# EAGLE library part ATSAM4S8B (library misc)
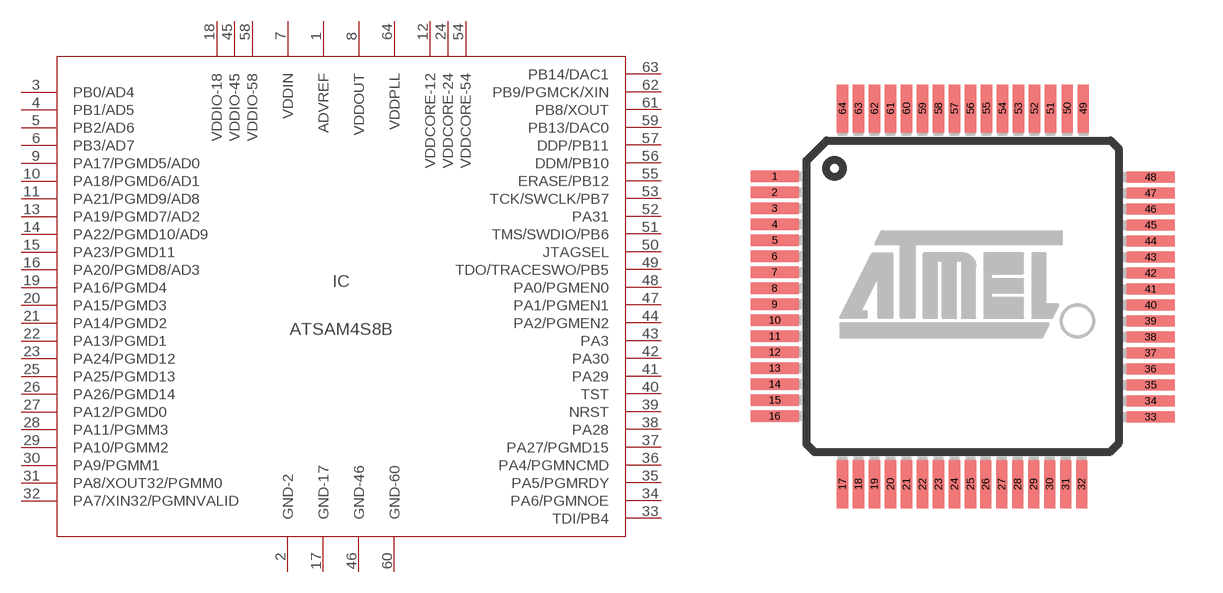
[diagram p3: symbol with the pads of LQFP64; footprint LQFP64]

Designator prefix IC

## ATSAM4S8B  [LQFP64]
1  ADVREF
2  GND-2
3  PB0/AD4
4  PB1/AD5
5  PB2/AD6
6  PB3/AD7
7  VDDIN
8  VDDOUT
9  PA17/PGMD5/AD0
10  PA18/PGMD6/AD1
11  PA21/PGMD9/AD8
12  VDDCORE-12
13  PA19/PGMD7/AD2
14  PA22/PGMD10/AD9
15  PA23/PGMD11
16  PA20/PGMD8/AD3
17  GND-17
18  VDDIO-18
19  PA16/PGMD4
20  PA15/PGMD3
21  PA14/PGMD2
22  PA13/PGMD1
23  PA24/PGMD12
24  VDDCORE-24
25  PA25/PGMD13
26  PA26/PGMD14
27  PA12/PGMD0
28  PA11/PGMM3
29  PA10/PGMM2
30  PA9/PGMM1
31  PA8/XOUT32/PGMM0
32  PA7/XIN32/PGMNVALID
33  TDI/PB4
34  PA6/PGMNOE
35  PA5/PGMRDY
36  PA4/PGMNCMD
37  PA27/PGMD15
38  PA28
39  NRST
40  TST
41  PA29
42  PA30
43  PA3
44  PA2/PGMEN2
45  VDDIO-45
46  GND-46
47  PA1/PGMEN1
48  PA0/PGMEN0
49  TDO/TRACESWO/PB5
50  JTAGSEL
51  TMS/SWDIO/PB6
52  PA31
53  TCK/SWCLK/PB7
54  VDDCORE-54
55  ERASE/PB12
56  DDM/PB10
57  DDP/PB11
58  VDDIO-58
59  PB13/DAC0
60  GND-60
61  PB8/XOUT
62  PB9/PGMCK/XIN
63  PB14/DAC1
64  VDDPLL

## Footprint LQFP64 (pad centres in mm)
LQFP 64
smd 1.5 x 0.35: 1 -5.875,3.75; 2 -5.875,3.25; 3 -5.875,2.75; 4 -5.875,2.25; 5 -5.875,1.75; 6 -5.875,1.25; 7 -5.875,0.75; 8 -5.875,0.25; 9 -5.875,-0.25; 10 -5.875,-0.75; 11 -5.875,-1.25; 12 -5.875,-1.75; 13 -5.875,-2.25; 14 -5.875,-2.75; 15 -5.875,-3.25; 16 -5.875,-3.75; 33 5.875,-3.775; 34 5.875,-3.275; 35 5.875,-2.775; 36 5.875,-2.275; 37 5.875,-1.775; 38 5.875,-1.275; 39 5.875,-0.775; 40 5.875,-0.275; 41 5.875,0.225; 42 5.875,0.725; 43 5.875,1.225; 44 5.875,1.725; 45 5.875,2.225; 46 5.875,2.725; 47 5.875,3.225; 48 5.875,3.725
smd 0.35 x 1.5: 17 -3.75,-5.875; 18 -3.25,-5.875; 19 -2.75,-5.875; 20 -2.25,-5.875; 21 -1.75,-5.875; 22 -1.25,-5.875; 23 -0.75,-5.875; 24 -0.25,-5.875; 25 0.25,-5.875; 26 0.725,-5.875; 27 1.225,-5.875; 28 1.725,-5.875; 29 2.225,-5.875; 30 2.725,-5.875; 31 3.225,-5.875; 32 3.725,-5.875; 49 3.775,5.875; 50 3.275,5.875; 51 2.75,5.875; 52 2.25,5.875; 53 1.75,5.875; 54 1.25,5.875; 55 0.75,5.875; 56 0.25,5.875; 57 -0.25,5.875; 58 -0.75,5.875; 59 -1.25,5.875; 60 -1.75,5.875; 61 -2.25,5.875; 62 -2.75,5.875; 63 -3.25,5.875; 64 -3.75,5.875